# Altium footprint library Inductors.PcbLib: 10 footprints
Each footprint in its own frame and in the unit in brackets; x right, y up, seen from the top. Pads: shape width x height; smd on the part's side, far side on the other; paste and mask are expansions set on the pad; w line width, h text height; cw(c..) or ccw(c..) is an arc to the next point about the centre after c.
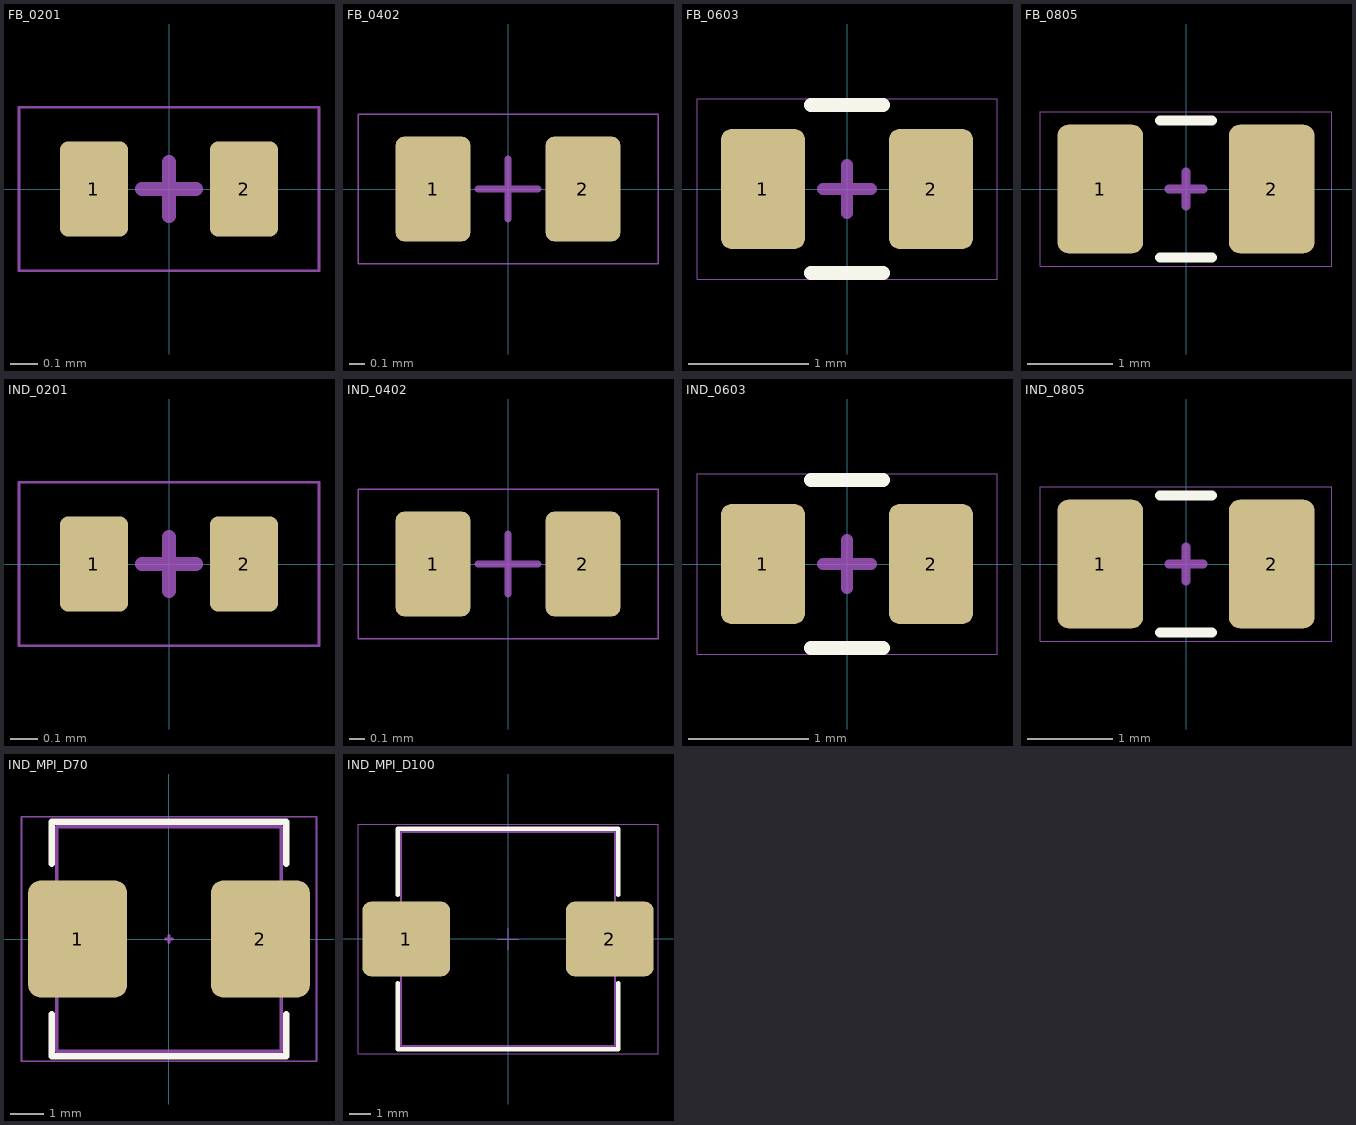
[diagram p0: the footprints below, top view; thin cyan lines are the x and y axes]

## FB_0201 [mm]
pads (2):
  rrect25% 0.25x0.35 smd: 1(-0.275,0) 2(0.275,0)
Top Component Center:
  lines w0.05: -0.1,0 0,0 ; 0,-0.1 0,0 ; 0,0.1 0,0 ; 0.1,0 0,0
Top Designator:
  text ".Designator" at -2.499,-0.167 h0.5
Top Courtyard:
  lines w0.01: -0.55,-0.3 -0.55,0.3 0.55,0.3 0.55,-0.3 -0.55,-0.3
3D body "FB_0201 v2.step": height 0.3, standoff 0, extent -0.3,-0.15 0.3,0.15

## FB_0402 [mm]
pads (2):
  rrect25% 0.5x0.7 smd: 1(-0.5,0) 2(0.5,0)
Top Component Center:
  lines w0.05: -0.2,0 0,0 ; 0,-0.2 0,0 ; 0,0.2 0,0 ; 0.2,0 0,0
Top Designator:
  text ".Designator" at -2.499,-0.167 h0.5
Top Courtyard:
  lines w0.01: -1,-0.5 1,-0.5 1,0.5 -1,0.5 -1,-0.5
3D body "FB-0402 v1.step": height 0.55, standoff -0.01, extent -0.525,-0.275 0.525,0.275

## FB_0603 [mm]
pads (2):
  rrect25% 0.7x1 smd: 1(-0.7,0) 2(0.7,0)
Top Overlay:
  lines w0.12: -0.3,-0.7 0,-0.7 0.3,-0.7 ; -0.3,0.7 0,0.7 0.3,0.7
Top Component Center:
  lines w0.1: -0.2,0 0,0 ; 0,-0.2 0,0 ; 0,0.2 0,0 ; 0.2,0 0,0
Top Designator:
  text ".Designator" at -4.998,-0.333 h1
Top Courtyard:
  lines w0.01: -1.25,-0.75 -1.25,0.75 0.15,0.75 1.25,0.75 1.25,-0.75 -1.25,-0.75
3D body "FB-0603 v2.step": height 0.92, standoff -0.03, extent -0.875,-0.475 0.875,0.475

## FB_0805 [mm]
pads (2):
  rrect25% 1x1.5 smd: 1(-1,0) 2(1,0)
Top Overlay:
  lines w0.12: -0.3,-0.8 0,-0.8 0.3,-0.8 ; -0.3,0.8 0,0.8 0.3,0.8
Top Component Center:
  lines w0.1: -0.2,0 0,0 ; 0,-0.2 0,0 ; 0,0.2 0,0 ; 0.2,0 0,0
Top Designator:
  text ".Designator" at -7.618,-0.508 h1.52
Top Courtyard:
  lines w0.01: -1.7,-0.9 1.7,-0.9 1.7,0.9 0,0.9 -1.7,0.9 -1.7,-0.9
3D body "FB-0805-T1.05 v2.step": height 1.05, standoff 0, extent -1.1,-0.725 1.1,0.725

## IND_0201 [mm]
height 0.45
pads (2):
  rrect25% 0.25x0.35 smd: 1(-0.275,0) 2(0.275,0)
Top Component Center:
  lines w0.05: -0.1,0 0,0 ; 0,-0.1 0,0 ; 0,0.1 0,0 ; 0.1,0 0,0
Top Designator:
  text ".Designator" at -2.499,-0.167 h0.5
Top Courtyard:
  lines w0.01: -0.55,-0.3 -0.55,0.3 0.55,0.3 0.55,-0.3 -0.55,-0.3
3D body "IND_0201 v2.step": height 0.3, standoff 0, extent -0.3,-0.15 0.3,0.15

## IND_0402 [mm]
pads (2):
  rrect25% 0.5x0.7 smd: 1(-0.5,0) 2(0.5,0)
Top Component Center:
  lines w0.05: -0.2,0 0,0 ; 0,-0.2 0,0 ; 0,0.2 0,0 ; 0.2,0 0,0
Top Designator:
  text ".Designator" at -2.499,-0.167 h0.5
Top Courtyard:
  lines w0.01: -1,-0.5 -1,0.5 1,0.5 1,-0.5 -1,-0.5
3D body "INDC-0402.stp": height 0.55, standoff 0, extent -0.525,-0.275 0.525,0.275

## IND_0603 [mm]
pads (2):
  rrect25% 0.7x1 smd: 1(-0.7,0) 2(0.7,0)
Top Overlay:
  lines w0.12: -0.3,-0.7 0,-0.7 0.3,-0.7 ; -0.3,0.7 0,0.7 0.3,0.7
Top Component Center:
  lines w0.1: -0.2,0 0,0 ; 0,-0.2 0,0 ; 0,0.2 0,0 ; 0.2,0 0,0
Top Designator:
  text ".Designator" at -4.998,-0.333 h1
Top Courtyard:
  lines w0.01: -1.25,-0.75 1.25,-0.75 1.25,0.75 0.15,0.75 -1.25,0.75 -1.25,-0.75
3D body "INDC-0603.stp": height 0.95, standoff 0, extent -0.875,-0.475 0.875,0.475

## IND_0805 [mm]
pads (2):
  rrect25% 1x1.5 smd: 1(-1,0) 2(1,0)
Top Overlay:
  lines w0.12: -0.3,-0.8 0,-0.8 0.3,-0.8 ; -0.3,0.8 0,0.8 0.3,0.8
Top Component Center:
  lines w0.1: -0.2,0 0,0 ; 0,-0.2 0,0 ; 0,0.2 0,0 ; 0.2,0 0,0
Top Designator:
  text ".Designator" at -7.618,-0.508 h1.52
Top Courtyard:
  lines w0.01: -1.7,-0.9 -1.7,0.9 0,0.9 1.7,0.9 1.7,-0.9 -1.7,-0.9
3D body "INDC-0805-T1.05.stp": height 1.05, standoff 0, extent -1.1,-0.725 1.1,0.725

## IND_MPI_D70 [mm]
pads (2):
  rrect25% 2.95x3.5 smd: 1(-2.725,0) 2(2.725,0)
Top Overlay:
  lines w0.2: -3.5,-2.25 -3.5,-3.5 3.5,-3.5 3.5,-2.25 ; -3.5,2.25 -3.5,3.5 3.5,3.5 3.5,2.25
Top Component Center:
  lines w0.1: -0.1,0 0,0 ; 0,-0.1 0,0 ; 0,0.1 0,0 ; 0.1,0 0,0
Top Assembly:
  lines w0.1: -3.35,-3.35 -3.35,3.35 3.35,3.35 3.35,-3.35 -3.35,-3.35
Top Designator:
  text ".Designator" at -7.498,-0.5 h1.5
Top Courtyard:
  lines w0.05: -4.4,-3.65 -4.4,3.65 4.4,3.65 4.4,-3.65 -4.4,-3.65
3D body "STEP-WE-LHMI-7030-rev1.stp": height 2.8, standoff 0, extent -3.65,-3.3 3.65,3.3

## IND_MPI_D100 [mm]
pads (2):
  rrect25% 4.1x3.5 smd: 1(-4.751,-0.001) 2(4.749,-0.001)
Top Overlay:
  lines w0.2: -5.151,-2.051 -5.151,-5.151 5.149,-5.151 5.149,-2.051 ; -5.151,2.049 -5.151,5.149 5.149,5.149 5.149,2.049
Top Component Center:
  lines w0.05: -0.501,-0.001 0.499,-0.001 ; -0.001,-0.501 -0.001,0.499
Top Designator:
  text ".Designator" at -7.498,-0.501 h1.5
Top Component Outline:
  lines w0.1: -5.001,-5.001 -5.001,4.999 4.999,4.999 4.999,-5.001 -5.001,-5.001
Top Courtyard:
  lines w0.05: -7.001,-5.351 -7.001,5.349 6.999,5.349 6.999,-5.351 -7.001,-5.351
3D body "STEP-WE-LHMI-1040-rev1.stp": height 3.8, standoff 0, extent -5.501,-5.001 5.499,4.999